# EAGLE library part SKW92B (library mastrogippo)
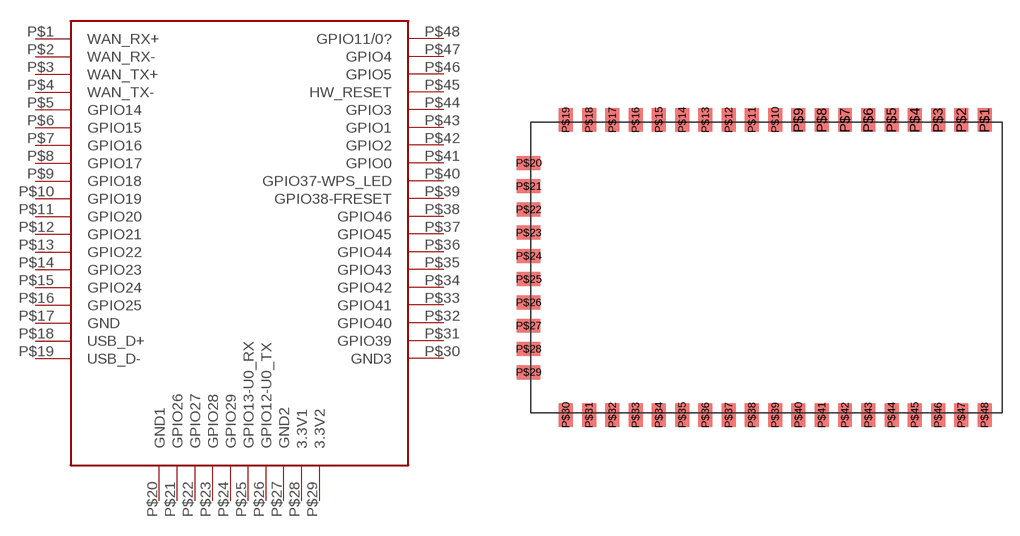
[diagram p20: symbol with the pads of SKW92; footprint SKW92]

Designator prefix -

## SKW92B  [SKW92]
P$1  WAN_RX+
P$2  WAN_RX-
P$3  WAN_TX+
P$4  WAN_TX-
P$5  GPIO14
P$6  GPIO15
P$7  GPIO16
P$8  GPIO17
P$9  GPIO18
P$10  GPIO19
P$11  GPIO20
P$12  GPIO21
P$13  GPIO22
P$14  GPIO23
P$15  GPIO24
P$16  GPIO25
P$17  GND
P$18  USB_D+
P$19  USB_D-
P$20  GND1
P$21  GPIO26
P$22  GPIO27
P$23  GPIO28
P$24  GPIO29
P$25  GPIO13-U0_RX
P$26  GPIO12-U0_TX
P$27  GND2
P$28  3.3V1
P$29  3.3V2
P$30  GND3
P$31  GPIO39
P$32  GPIO40
P$33  GPIO41
P$34  GPIO42
P$35  GPIO43
P$36  GPIO44
P$37  GPIO45
P$38  GPIO46
P$39  GPIO38-FRESET
P$40  GPIO37-WPS_LED
P$41  GPIO0
P$42  GPIO2
P$43  GPIO1
P$44  GPIO3
P$45  HW_RESET
P$46  GPIO5
P$47  GPIO4
P$48  GPIO11/0?

## Footprint SKW92 (pad centres in mm)
smd 1.2 x 2: P$1 39,25.2; P$2 37,25.2; P$3 35,25.2; P$4 33,25.2; P$5 31,25.2; P$6 29,25.2; P$7 27,25.2; P$8 25,25.2; P$9 23,25.2; P$10 21,25.2; P$11 19,25.2; P$12 17,25.2; P$13 15,25.2; P$14 13,25.2; P$15 11,25.2; P$16 9,25.2; P$17 7,25.2; P$18 5,25.2; P$19 3,25.2; P$30 3,-0.2; P$31 5,-0.2; P$32 7,-0.2; P$33 9,-0.2; P$34 11,-0.2; P$35 13,-0.2; P$36 15,-0.2; P$37 17,-0.2; P$38 19,-0.2; P$39 21,-0.2; P$40 23,-0.2; P$41 25,-0.2; P$42 27,-0.2; P$43 29,-0.2; P$44 31,-0.2; P$45 33,-0.2; P$46 35,-0.2; P$47 37,-0.2; P$48 39,-0.2
smd 2 x 1.2: P$20 -0.2,21.5; P$21 -0.2,19.5; P$22 -0.2,17.5; P$23 -0.2,15.5; P$24 -0.2,13.5; P$25 -0.2,11.5; P$26 -0.2,9.5; P$27 -0.2,7.5; P$28 -0.2,5.5; P$29 -0.2,3.5